# Altium schematic symbol library CAP1206.SchLib: 1 symbol
Pins are listed as number, name and electrical type; pins without a type are passive.

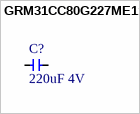
[diagram p0: symbol GRM31CC80G227ME11L]

## GRM31CC80G227ME11L
designator C?, comment 220uF 4V
1206 SMD capacitor X6S(EIA) with capacitance 220uF Tol.20%. Rated voltage 4Vdc 105C; MF: Murata Electronics; MP: GRM31CC80G227ME11L; Purchase-URL: https://pricing.snapeda.com/search/part/GRM31CC80G227ME11L/?ref=eda; Package: 3216 Murata; Digi-Key_Part_Number: 490-13250-1-ND; SnapEDA_Link: https://www.snapeda.com/parts/GRM31CC80G227ME11L/Murata%20Electronics%20North%20America/view-part/1836581/?ref=snap; Value: *
footprint CAPC3216X190N
pins: 1, 2